# EAGLE library part TPS7A4700_RGW_20 (library SensorCape)
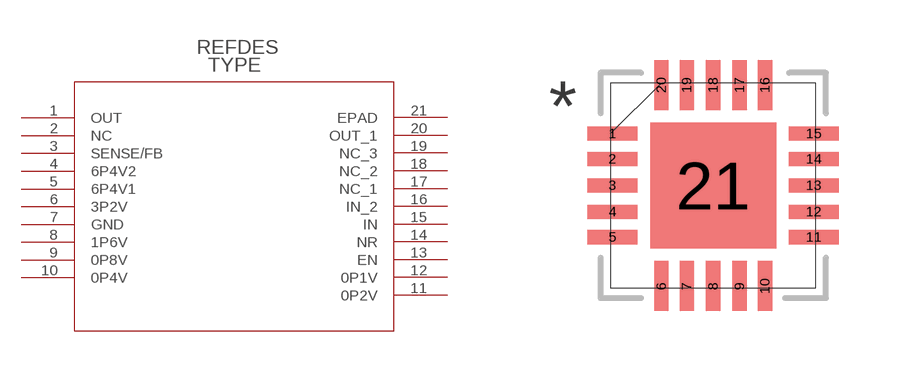
[diagram p11: symbol with the pads of RGW20_3P15X3P15; footprint RGW20_3P15X3P15]

Designator prefix -

## TPS7A4700_RGW_20  [RGW20_3P15X3P15]
1  OUT  pas
2  NC  pas
3  SENSE/FB  pas
4  6P4V2  pas
5  6P4V1  pas
6  3P2V  pas
7  GND  pas
8  1P6V  pas
9  0P8V  pas
10  0P4V  pas
11  0P2V  pas
12  0P1V  pas
13  EN  pas
14  NR  pas
15  IN  pas
16  IN_2  pas
17  NC_1  pas
18  NC_2  pas
19  NC_3  pas
20  OUT_1  pas
21  EPAD  pas

## Footprint RGW20_3P15X3P15 (pad centres in mm)
smd 1.25 x 0.356: 1 -2.518,1.295; 2 -2.518,0.66; 3 -2.518,0; 4 -2.518,-0.66; 5 -2.518,-1.295; 11 2.518,-1.295; 12 2.518,-0.66; 13 2.518,0; 14 2.518,0.66; 15 2.518,1.295
smd 0.356 x 1.25: 6 -1.295,-2.518; 7 -0.66,-2.518; 8 0,-2.518; 9 0.66,-2.518; 10 1.295,-2.518; 16 1.295,2.518; 17 0.66,2.518; 18 0,2.518; 19 -0.66,2.518; 20 -1.295,2.518
smd 3.15 x 3.15: 21 0,0